# EAGLE library part MCP4018 (library aobotelhoLibrary)
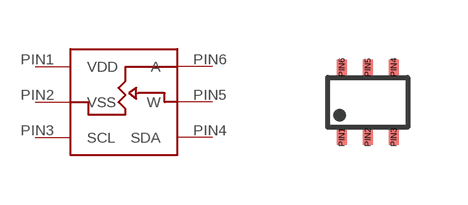
[diagram p7: symbol with the pads of SC70-6; footprint SC70-6]

Designator prefix -

## MCP4018  [SC70-6]
PIN1  VDD
PIN2  VSS
PIN3  SCL
PIN4  SDA
PIN5  W
PIN6  A

## Footprint SC70-6 (pad centres in mm)
smd 0.25 x 0.38: PIN1 -0.666,-0.885; PIN2 -0.016,-0.885; PIN3 0.634,-0.885; PIN4 0.634,0.865; PIN5 -0.016,0.865; PIN6 -0.666,0.865